# Altium footprint library MIFootprintLibrary.PcbLib: 2 footprints
Each footprint in its own frame and in the unit in brackets; x right, y up, seen from the top. Pads: shape width x height; smd on the part's side, far side on the other; paste and mask are expansions set on the pad; w line width, h text height; cw(c..) or ccw(c..) is an arc to the next point about the centre after c.
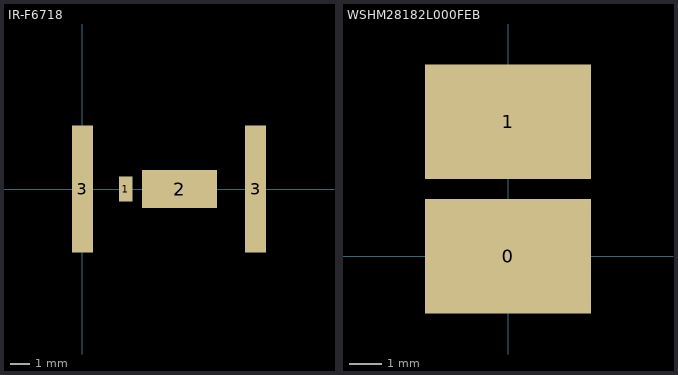
[diagram p0: the footprints below, top view; thin cyan lines are the x and y axes]

## IR-F6718 [mm]
pads (4):
  rect 0.7x1.3 smd: 1(2.25,0)
  rect 3.9x2 smd: 2(5.05,0)
  rect 1.1x6.6 smd: 3(0,0) 3(9,0)

## WSHM28182L000FEB [mil]
pads (2):
  rect 200x138 smd: 0(0,0) 1(0,162)